# EAGLE library part USB3.0-B (library Connector)
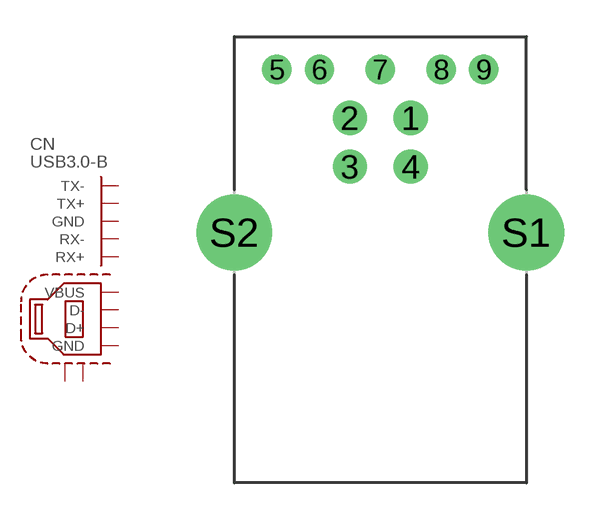
[diagram p3: symbol with the pads of USB3.0-B; footprint USB3.0-B]

Designator prefix CN

## USB3.0-B  [USB3.0-B]
1  VBUS  pas
2  D-  pas
3  D+  pas
4  GND  pas
5  TX-  pas
6  TX+  pas
7  GND  pas
8  RX-  pas
9  RX+  pas
S1  S1  pas
S2  S2  pas

## Footprint USB3.0-B (pad centres in mm)
drill 0.9: 1 1.25,5.75; 2 -1.25,5.75; 3 -1.25,3.75; 4 1.25,3.75
drill 0.7: 5 -4.25,7.75; 6 -2.5,7.75; 7 0,7.75; 8 2.5,7.75; 9 4.25,7.75
drill 2.1: S1 6,1.05; S2 -6,1.05